# Altium integrated library Analog Devices Data Converters Digital-to-Analog Converters.IntLib: 2231 symbols (part 38 of 181)
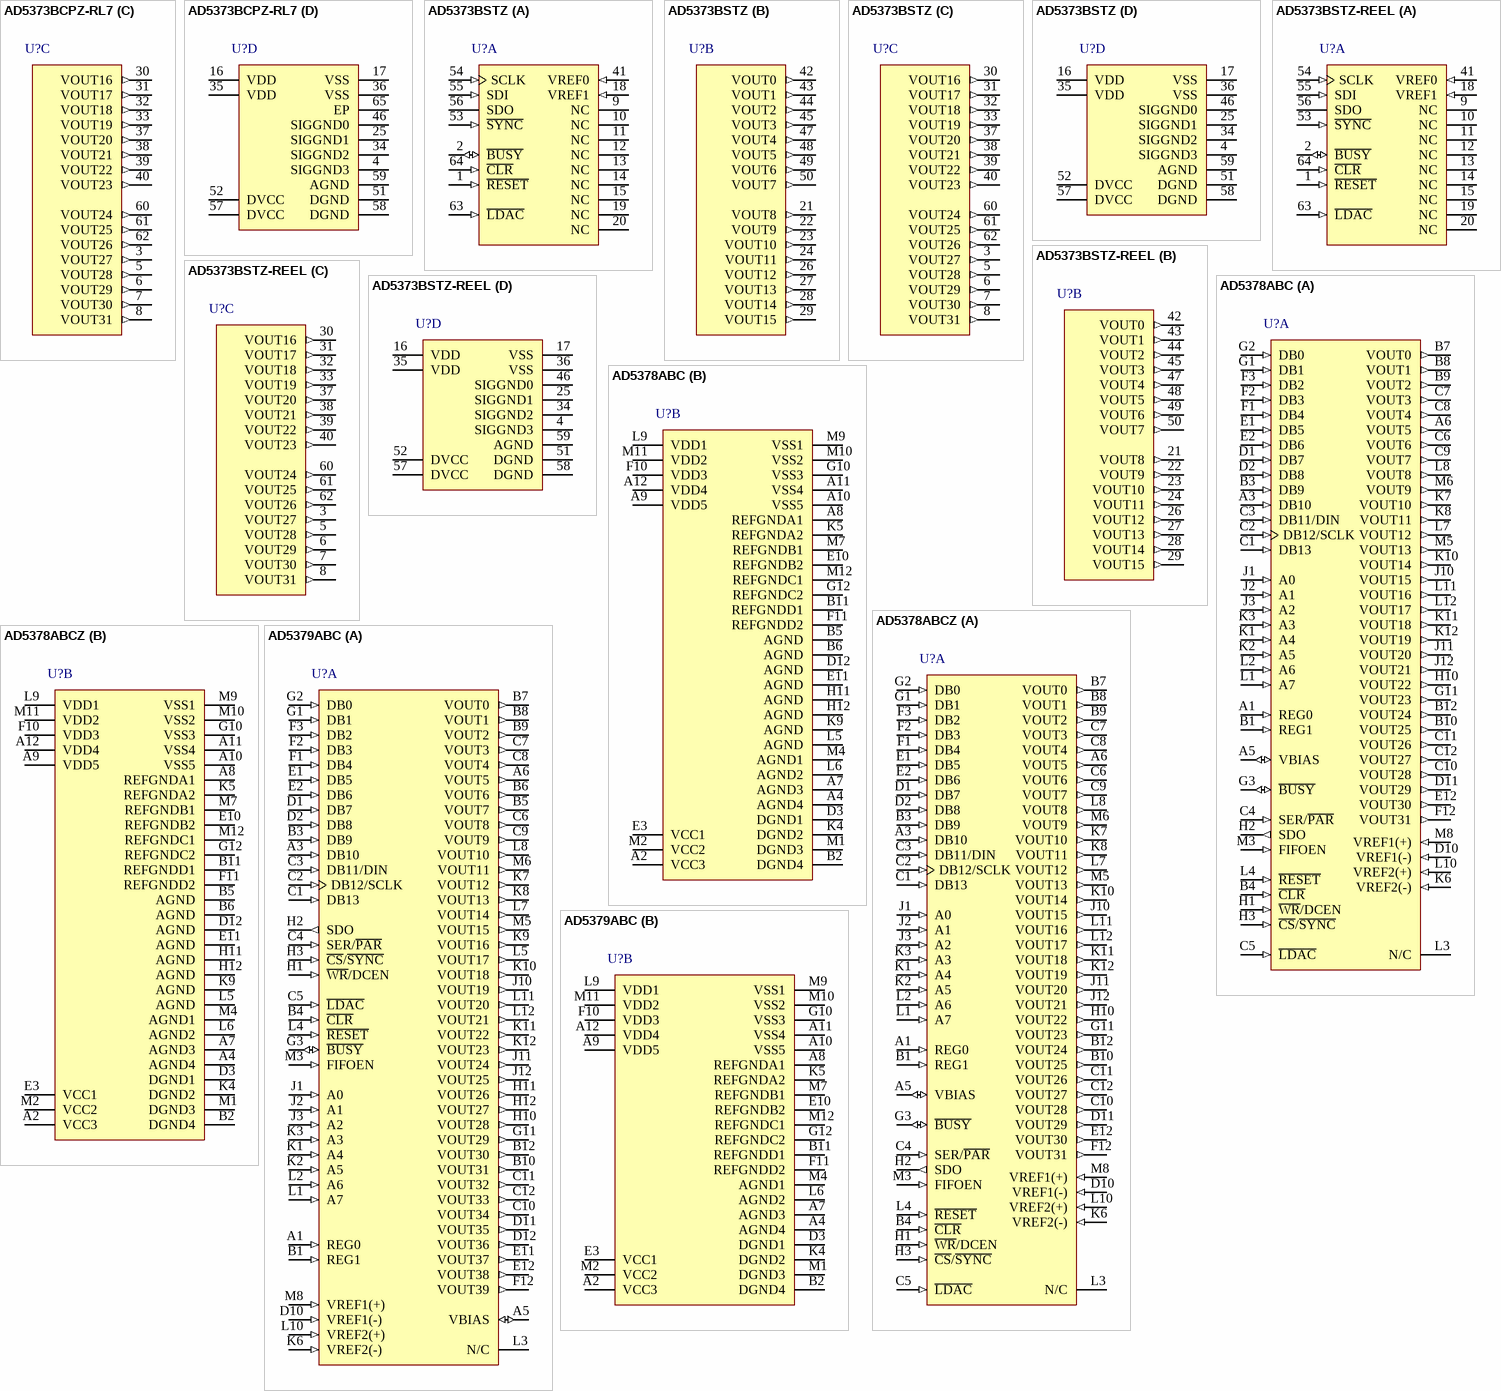
[diagram p151: symbols AD5373BCPZ-RL7 to AD5379ABC]

## AD5378ABC
designator U?
32 Channel 14-Bit Bipolar Voltage Output Digital-to-Analog Converter with Parallel and Serial Interface, -40 to +85 degC, BC-108-2, Tray; Generic Part Number: AD5378; Manufacturer: Analog Devices; PartNumber: AD5378ABC; # DAC Outputs: 32; Max V+: 16.5V; Op Pwr Diss: 850mW; Resolution (Bits): 14; Settling Time: 20µs; Single Supply: No; DatasheetVersion: Rev.A; PackageVersion: 012006-0; PackageReference: BC-108-2; PackageDescription: 108-Ball Chip Scale Package Ball Grid Array [CSP_BGA]; Supplier 1: Digi-Key; Supplier Part Number 1: AD5378ABC-ND; Supplier 2: Mouser; Supplier Part Number 2: 584-AD5378ABC; Packing: Tray; RoHS: N; Mounting Technology: Surface Mount; Code_JEDEC: MO-192-AAD-1; ComponentLink1Description: Manufacturer URL; ComponentLink1URL: http://www.analog.com/en/index.html; ComponentLink2Description: Datasheet; ComponentLink2URL: http://www.analog.com/static/imported-files/data_sheets/AD5378.pdf; ComponentLink3Description: Package Specification; ComponentLink3URL: http://www.analog.com/static/imported-files/packages/PKG_PDF/CSPBGA%20(BC)/BC_108_2.pdf; ComponentLink4Description: Product URL; ComponentLink4URL: http://www.analog.com/en/digital-to-analog-converters/da-converters/ad5378/products/product.html
footprint BC-108-2 (BGA, 108-Leads, Body 13x13mm, Pitch 1mm)
part A pins: A1 REG0 (in) "Parallel Interface Register Select Input. This pin is used together with REG1 to select data registers, gain registers, offset registers, increment/decrement mode, or the soft reset function. See Table 12.", A3 DB10 (in) "Parallel Data Input.", A5 VBIAS (io) "DAC Bias Voltage Input/Output. This pin provides an access to the on-chip voltage generator voltage. It is provided for bypassing and overdriving purposes only. If VREF(+) > 4.25 V, VBIAS must be pulled high externally to an (See Datasheet)", A6 VOUT5 (out) "DAC Output. Buffered analog outputs for each of the 32 DAC channels. Each analog output can drive an output load of 5 k ohm to ground. Typical output impedance of these amplifiers is 1 ohm.", B1 REG1 (in) "Parallel Interface Register Select Input. This pin is used together with REG0 to select data registers, gain registers, offset registers, increment/decrement mode, or the soft reset function. See Table 12.", B3 DB9 (in) "Parallel Data Input.", B4 ~{CLR} (in) "Asynchronous Clear Input. Level sensitive, active low. When C\L\R\ is low, the input to each of the DAC output buffer stages, VOUT0 to VOUT31, is switched to the externally set potential on the relevant REFGND pin. While (See Datasheet)", B7 VOUT0 (out) "DAC Output. Buffered analog outputs for each of the 32 DAC channels. Each analog output can drive an output load of 5 k ohm to ground. Typical output impedance of these amplifiers is 1 ohm.", B8 VOUT1 (out) "DAC Output. Buffered analog outputs for each of the 32 DAC channels. Each analog output can drive an output load of 5 k ohm to ground. Typical output impedance of these amplifiers is 1 ohm.", B9 VOUT2 (out) "DAC Output. Buffered analog outputs for each of the 32 DAC channels. Each analog output can drive an output load of 5 k ohm to ground. Typical output impedance of these amplifiers is 1 ohm.", B10 VOUT25 (out) "DAC Output. Buffered analog outputs for each of the 32 DAC channels. Each analog output can drive an output load of 5 k ohm to ground. Typical output impedance of these amplifiers is 1 ohm.", B12 VOUT24 (out) "DAC Output. Buffered analog outputs for each of the 32 DAC channels. Each analog output can drive an output load of 5 k ohm to ground. Typical output impedance of these amplifiers is 1 ohm.", C1 DB13 (in) "Parallel Data Input. DB13 is the MSB.", C2 DB12/SCLK (in) "Parallel Data Input. / Serial Clock Input. Data is clocked into the shift register on the falling edge of SCLK. This pin operates at clock speeds up to 50 MHz.", C3 DB11/DIN (in) "Parallel Data Input. / Serial Data Input. Data must be valid on the falling edge of SCLK.", C4 SER/~{PAR} (in) "Interface Select Input. This pin allows the user to select whether the serial or parallel interface is used. This pin has an internal 1 M ohm pull-down resistor, meaning that the default state at power-on is parallel mode. (See Datasheet)", C5 ~{LDAC} (in) "Load DAC Logic Input. Active low. If L\D\A\C\ is taken low while B\U\S\Y\ is inactive (high), the contents of the input registers are transferred to the DAC registers, and the DAC outputs are updated. If L\D\A\C\ is taken (See Datasheet)", C6 VOUT6 (out) "DAC Output. Buffered analog outputs for each of the 32 DAC channels. Each analog output can drive an output load of 5 k ohm to ground. Typical output impedance of these amplifiers is 1 ohm.", C7 VOUT3 (out) "DAC Output. Buffered analog outputs for each of the 32 DAC channels. Each analog output can drive an output load of 5 k ohm to ground. Typical output impedance of these amplifiers is 1 ohm.", C8 VOUT4 (out) "DAC Output. Buffered analog outputs for each of the 32 DAC channels. Each analog output can drive an output load of 5 k ohm to ground. Typical output impedance of these amplifiers is 1 ohm.", C9 VOUT7 (out) "DAC Output. Buffered analog outputs for each of the 32 DAC channels. Each analog output can drive an output load of 5 k ohm to ground. Typical output impedance of these amplifiers is 1 ohm.", C10 VOUT28 (out) "DAC Output. Buffered analog outputs for each of the 32 DAC channels. Each analog output can drive an output load of 5 k ohm to ground. Typical output impedance of these amplifiers is 1 ohm.", C11 VOUT26 (out) "DAC Output. Buffered analog outputs for each of the 32 DAC channels. Each analog output can drive an output load of 5 k ohm to ground. Typical output impedance of these amplifiers is 1 ohm.", C12 VOUT27 (out) "DAC Output. Buffered analog outputs for each of the 32 DAC channels. Each analog output can drive an output load of 5 k ohm to ground. Typical output impedance of these amplifiers is 1 ohm.", D1 DB7 (in) "Parallel Data Input.", D2 DB8 (in) "Parallel Data Input.", D10 VREF1(-) (in) "Reference Inputs for DACs 0 to 5, 8 to 13, 16 to 21, and 24 to 30. These voltages are referred to AGND.", D11 VOUT29 (out) "DAC Output. Buffered analog outputs for each of the 32 DAC channels. Each analog output can drive an output load of 5 k ohm to ground. Typical output impedance of these amplifiers is 1 ohm.", E1 DB5 (in) "Parallel Data Input.", E2 DB6 (in) "Parallel Data Input.", E12 VOUT30 (out) "DAC Output. Buffered analog outputs for each of the 32 DAC channels. Each analog output can drive an output load of 5 k ohm to ground. Typical output impedance of these amplifiers is 1 ohm.", F1 DB4 (in) "Parallel Data Input.", F2 DB3 (in) "Parallel Data Input.", F3 DB2 (in) "Parallel Data Input.", F12 VOUT31 (out) "DAC Output. Buffered analog outputs for each of the 32 DAC channels. Each analog output can drive an output load of 5 k ohm to ground. Typical output impedance of these amplifiers is 1 ohm.", G1 DB1 (in) "Parallel Data Input.", G2 DB0 (in) "Parallel Data Input. DB0 is the LSB.", G3 ~{BUSY} (io) "Digital Input/Open-Drain Output. This pin must be pulled high with a pull-up resistor for correct operation. B\U\S\Y\ goes low during internal calculations of x2. During this time, the user can continue writing new data to (See Datasheet)", G11 VOUT23 (out) "DAC Output. Buffered analog outputs for each of the 32 DAC channels. Each analog output can drive an output load of 5 k ohm to ground. Typical output impedance of these amplifiers is 1 ohm.", H1 ~{WR}/DCEN (in) "Parallel Interface Write Input. Edge sensitive. The rising edge of W\R\ is used in conjunction with C\S\ low and the address bus inputs to write to the selected AD5378 registers. / Daisy-Chain Select Input. Level sensitive, (See Datasheet)", H2 SDO (out) "Serial Data Output. CMOS output. SDO can be used for daisy-chaining several devices together. Data is clocked out on SDO on the rising edge of SCLK and is valid on the falling edge of SCLK.", H3 ~{CS}/~{SYNC} (in) "Parallel Interface Chip Select Input. Level sensitive, active low. When this pin is low, the device is selected. / Active Low Input. This is the frame synchronization signal for the serial interface.", H10 VOUT22 (out) "DAC Output. Buffered analog outputs for each of the 32 DAC channels. Each analog output can drive an output load of 5 k ohm to ground. Typical output impedance of these amplifiers is 1 ohm.", J1 A0 (in) "Parallel Address Input. A7 to A4 are decoded to select one group or multiple groups of registers (input registers, gain registers (m), or offset registers (c)) for a data transfer. This pin is used in conjunction with the (See Datasheet)", J2 A1 (in) "Parallel Address Input. A7 to A4 are decoded to select one group or multiple groups of registers (input registers, gain registers (m), or offset registers (c)) for a data transfer. This pin is used in conjunction with the (See Datasheet)", J3 A2 (in) "Parallel Address Input. A7 to A4 are decoded to select one group or multiple groups of registers (input registers, gain registers (m), or offset registers (c)) for a data transfer. This pin is used in conjunction with the (See Datasheet)", J10 VOUT15 (out) "DAC Output. Buffered analog outputs for each of the 32 DAC channels. Each analog output can drive an output load of 5 k ohm to ground. Typical output impedance of these amplifiers is 1 ohm.", J11 VOUT20 (out) "DAC Output. Buffered analog outputs for each of the 32 DAC channels. Each analog output can drive an output load of 5 k ohm to ground. Typical output impedance of these amplifiers is 1 ohm.", J12 VOUT21 (out) "DAC Output. Buffered analog outputs for each of the 32 DAC channels. Each analog output can drive an output load of 5 k ohm to ground. Typical output impedance of these amplifiers is 1 ohm.", K1 A4 (in) "Parallel Address Input. A7 to A4 are decoded to select one group or multiple groups of registers (input registers, gain registers (m), or offset registers (c)) for a data transfer. This pin is used in conjunction with the (See Datasheet)", K2 A5 (in) "Parallel Address Input. A7 to A4 are decoded to select one group or multiple groups of registers (input registers, gain registers (m), or offset registers (c)) for a data transfer. This pin is used in conjunction with the (See Datasheet)", K3 A3 (in) "Parallel Address Input. A7 to A4 are decoded to select one group or multiple groups of registers (input registers, gain registers (m), or offset registers (c)) for a data transfer. This pin is used in conjunction with the (See Datasheet)", K6 VREF2(-) (in) "Reference Inputs for DACs 6, 7, 14, 15, 22, 23, 30, and 31. These reference voltages are referred to AGND.", K7 VOUT10 (out) "DAC Output. Buffered analog outputs for each of the 32 DAC channels. Each analog output can drive an output load of 5 k ohm to ground. Typical output impedance of these amplifiers is 1 ohm.", K8 VOUT11 (out) "DAC Output. Buffered analog outputs for each of the 32 DAC channels. Each analog output can drive an output load of 5 k ohm to ground. Typical output impedance of these amplifiers is 1 ohm.", K10 VOUT14 (out) "DAC Output. Buffered analog outputs for each of the 32 DAC channels. Each analog output can drive an output load of 5 k ohm to ground. Typical output impedance of these amplifiers is 1 ohm.", K11 VOUT18 (out) "DAC Output. Buffered analog outputs for each of the 32 DAC channels. Each analog output can drive an output load of 5 k ohm to ground. Typical output impedance of these amplifiers is 1 ohm.", K12 VOUT19 (out) "DAC Output. Buffered analog outputs for each of the 32 DAC channels. Each analog output can drive an output load of 5 k ohm to ground. Typical output impedance of these amplifiers is 1 ohm.", L1 A7 (in) "Parallel Address Input. A7 to A4 are decoded to select one group or multiple groups of registers (input registers, gain registers (m), or offset registers (c)) for a data transfer. This pin is used in conjunction with the (See Datasheet)", L2 A6 (in) "Parallel Address Input. A7 to A4 are decoded to select one group or multiple groups of registers (input registers, gain registers (m), or offset registers (c)) for a data transfer. This pin is used in conjunction with the (See Datasheet)", L3 N/C "No Connect.", L4 ~{RESET} (in) "Asynchronous Digital Reset Input. Falling edge sensitive. If unused, R\E\S\E\T\ can be left unconnected; an internal pull-up resistor (1 M ohm) ensures that the R\E\S\E\T\ input is held high. The function of this pin is (See Datasheet)", L7 VOUT12 (out) "DAC Output. Buffered analog outputs for each of the 32 DAC channels. Each analog output can drive an output load of 5 k ohm to ground. Typical output impedance of these amplifiers is 1 ohm.", L8 VOUT8 (out) "DAC Output. Buffered analog outputs for each of the 32 DAC channels. Each analog output can drive an output load of 5 k ohm to ground. Typical output impedance of these amplifiers is 1 ohm.", L10 VREF2(+) (in) "Reference Inputs for DACs 6, 7, 14, 15, 22, 23, 30, and 31. These reference voltages are referred to AGND.", L11 VOUT16 (out) "DAC Output. Buffered analog outputs for each of the 32 DAC channels. Each analog output can drive an output load of 5 k ohm to ground. Typical output impedance of these amplifiers is 1 ohm.", L12 VOUT17 (out) "DAC Output. Buffered analog outputs for each of the 32 DAC channels. Each analog output can drive an output load of 5 k ohm to ground. Typical output impedance of these amplifiers is 1 ohm.", M3 FIFOEN (in) "FIFO Enable. Level sensitive, active high. When connected to DVDD, the internal FIFO is enabled, allowing the user to write to the device at full speed. FIFO is available in both serial and parallel modes. The FIFOEN pin has (See Datasheet)", M5 VOUT13 (out) "DAC Output. Buffered analog outputs for each of the 32 DAC channels. Each analog output can drive an output load of 5 k ohm to ground. Typical output impedance of these amplifiers is 1 ohm.", M6 VOUT9 (out) "DAC Output. Buffered analog outputs for each of the 32 DAC channels. Each analog output can drive an output load of 5 k ohm to ground. Typical output impedance of these amplifiers is 1 ohm.", M8 VREF1(+) (in) "Reference Inputs for DACs 0 to 5, 8 to 13, 16 to 21, and 24 to 30. These voltages are referred to AGND."
part B pins: A2 VCC3 (power) "Logic Power Supply. 2.7 V to 5.5 V. These pins should be decoupled with 0.1 uF ceramic capacitors and 10 uF tantalum capacitors.", A4 AGND4 (power) "Ground for All Analog Circuitry. All AGND pins should be connected to the AGND plane.", A7 AGND3 (power) "Ground for All Analog Circuitry. All AGND pins should be connected to the AGND plane.", A8 REFGNDA1 (power) "Reference Ground for DACs 0 to 5. VOUT0 to VOUT5 are referenced to this voltage.", A9 VDD5 (power) "Positive Analog Power Supply. +11.4 V to +16.5 V for specified performance. These pins should be decoupled with 0.1 uF ceramic capacitors and 10 uF tantalum capacitors.", A10 VSS5 (power) "Negative Analog Power Supply. -11.4 V to -16.5 V for specified performance. These pins should be decoupled with 0.1 uF ceramic capacitors and 10 uF tantalum capacitors.", A11 VSS4 (power) "Negative Analog Power Supply. -11.4 V to -16.5 V for specified performance. These pins should be decoupled with 0.1 uF ceramic capacitors and 10 uF tantalum capacitors.", A12 VDD4 (power) "Positive Analog Power Supply. +11.4 V to +16.5 V for specified performance. These pins should be decoupled with 0.1 uF ceramic capacitors and 10 uF tantalum capacitors.", B2 DGND4 (power) "Ground for All Digital Circuitry. All DGND pins should be connected to the DGND plane.", B5 AGND (power) "Ground for All Analog Circuitry. All AGND pins should be connected to the AGND plane.", B6 AGND (power) "Ground for All Analog Circuitry. All AGND pins should be connected to the AGND plane.", B11 REFGNDD1 (power) "Reference Ground for DACs 24 to 29. VOUT24 to VOUT29 are referenced to this voltage.", D3 DGND1 (power) "Ground for All Digital Circuitry. All DGND pins should be connected to the DGND plane.", D12 AGND (power) "Ground for All Analog Circuitry. All AGND pins should be connected to the AGND plane.", E3 VCC1 (power) "Logic Power Supply. 2.7 V to 5.5 V. These pins should be decoupled with 0.1 uF ceramic capacitors and 10 uF tantalum capacitors.", E10 REFGNDB2 (power) "Reference Ground for DACs 14 and 15. VOUT14 and VOUT15 are referenced to this voltage.", E11 AGND (power) "Ground for All Analog Circuitry. All AGND pins should be connected to the AGND plane.", F10 VDD3 (power) "Positive Analog Power Supply. +11.4 V to +16.5 V for specified performance. These pins should be decoupled with 0.1 uF ceramic capacitors and 10 uF tantalum capacitors.", F11 REFGNDD2 (power) "Reference Ground for DACs 30 and 31. VOUT30 and VOUT31 are referenced to this voltage.", G10 VSS3 (power) "Negative Analog Power Supply. -11.4 V to -16.5 V for specified performance. These pins should be decoupled with 0.1 uF ceramic capacitors and 10 uF tantalum capacitors.", G12 REFGNDC2 (power) "Reference Ground for DACs 22 and 23. VOUT22 and VOUT23 are referenced to this voltage.", H11 AGND (power) "Ground for All Analog Circuitry. All AGND pins should be connected to the AGND plane.", H12 AGND (power) "Ground for All Analog Circuitry. All AGND pins should be connected to the AGND plane.", K4 DGND2 (power) "Ground for All Digital Circuitry. All DGND pins should be connected to the DGND plane.", K5 REFGNDA2 (power) "Reference Ground for DACs 6 and 7. VOUT6 and VOUT7 are referenced to this voltage.", K9 AGND (power) "Ground for All Analog Circuitry. All AGND pins should be connected to the AGND plane.", L5 AGND (power) "Ground for All Analog Circuitry. All AGND pins should be connected to the AGND plane.", L6 AGND2 (power) "Ground for All Analog Circuitry. All AGND pins should be connected to the AGND plane.", L9 VDD1 (power) "Positive Analog Power Supply. +11.4 V to +16.5 V for specified performance. These pins should be decoupled with 0.1 uF ceramic capacitors and 10 uF tantalum capacitors.", M1 DGND3 (power) "Ground for All Digital Circuitry. All DGND pins should be connected to the DGND plane.", M2 VCC2 (power) "Logic Power Supply. 2.7 V to 5.5 V. These pins should be decoupled with 0.1 uF ceramic capacitors and 10 uF tantalum capacitors.", M4 AGND1 (power) "Ground for All Analog Circuitry. All AGND pins should be connected to the AGND plane.", M7 REFGNDB1 (power) "Reference Ground for DACs 8 to 13. VOUT8 to VOUT13 are referenced to this voltage.", M9 VSS1 (power) "Negative Analog Power Supply. -11.4 V to -16.5 V for specified performance. These pins should be decoupled with 0.1 uF ceramic capacitors and 10 uF tantalum capacitors.", M10 VSS2 (power) "Negative Analog Power Supply. -11.4 V to -16.5 V for specified performance. These pins should be decoupled with 0.1 uF ceramic capacitors and 10 uF tantalum capacitors.", M11 VDD2 (power) "Positive Analog Power Supply. +11.4 V to +16.5 V for specified performance. These pins should be decoupled with 0.1 uF ceramic capacitors and 10 uF tantalum capacitors.", M12 REFGNDC1 (power) "Reference Ground for DACs 16 to 21. VOUT16 to VOUT21 are referenced to this voltage."

## AD5378ABCZ
designator U?
32 Channel 14-Bit Bipolar Voltage Output Digital-to-Analog Converter with Parallel and Serial Interface, -40 to +85 degC, BC-108-2, Pb-Free, Tray; Generic Part Number: AD5378; Manufacturer: Analog Devices; PartNumber: AD5378ABCZ; # DAC Outputs: 32; Max V+: 16.5V; Op Pwr Diss: 850mW; Resolution (Bits): 14; Settling Time: 20µs; Single Supply: No; DatasheetVersion: Rev.A; PackageVersion: 012006-0; PackageReference: BC-108-2; PackageDescription: 108-Ball Chip Scale Package Ball Grid Array [CSP_BGA]; Supplier 1: Digi-Key; Supplier Part Number 1: AD5378ABCZ-ND; Supplier 2: Mouser; Supplier Part Number 2: 584-AD5378ABCZ; Packing: Tray; RoHS: Y; Mounting Technology: Surface Mount; Code_JEDEC: MO-192-AAD-1; ComponentLink1Description: Manufacturer URL; ComponentLink1URL: http://www.analog.com/en/index.html; ComponentLink2Description: Datasheet; ComponentLink2URL: http://www.analog.com/static/imported-files/data_sheets/AD5378.pdf; ComponentLink3Description: Package Specification; ComponentLink3URL: http://www.analog.com/static/imported-files/packages/PKG_PDF/CSPBGA%20(BC)/BC_108_2.pdf; ComponentLink4Description: Product URL; ComponentLink4URL: http://www.analog.com/en/digital-to-analog-converters/da-converters/ad5378/products/product.html
footprint BC-108-2 (BGA, 108-Leads, Body 13x13mm, Pitch 1mm)
part A pins: A1 REG0 (in) "Parallel Interface Register Select Input. This pin is used together with REG1 to select data registers, gain registers, offset registers, increment/decrement mode, or the soft reset function. See Table 12.", A3 DB10 (in) "Parallel Data Input.", A5 VBIAS (io) "DAC Bias Voltage Input/Output. This pin provides an access to the on-chip voltage generator voltage. It is provided for bypassing and overdriving purposes only. If VREF(+) > 4.25 V, VBIAS must be pulled high externally to an (See Datasheet)", A6 VOUT5 (out) "DAC Output. Buffered analog outputs for each of the 32 DAC channels. Each analog output can drive an output load of 5 k ohm to ground. Typical output impedance of these amplifiers is 1 ohm.", B1 REG1 (in) "Parallel Interface Register Select Input. This pin is used together with REG0 to select data registers, gain registers, offset registers, increment/decrement mode, or the soft reset function. See Table 12.", B3 DB9 (in) "Parallel Data Input.", B4 ~{CLR} (in) "Asynchronous Clear Input. Level sensitive, active low. When C\L\R\ is low, the input to each of the DAC output buffer stages, VOUT0 to VOUT31, is switched to the externally set potential on the relevant REFGND pin. While (See Datasheet)", B7 VOUT0 (out) "DAC Output. Buffered analog outputs for each of the 32 DAC channels. Each analog output can drive an output load of 5 k ohm to ground. Typical output impedance of these amplifiers is 1 ohm.", B8 VOUT1 (out) "DAC Output. Buffered analog outputs for each of the 32 DAC channels. Each analog output can drive an output load of 5 k ohm to ground. Typical output impedance of these amplifiers is 1 ohm.", B9 VOUT2 (out) "DAC Output. Buffered analog outputs for each of the 32 DAC channels. Each analog output can drive an output load of 5 k ohm to ground. Typical output impedance of these amplifiers is 1 ohm.", B10 VOUT25 (out) "DAC Output. Buffered analog outputs for each of the 32 DAC channels. Each analog output can drive an output load of 5 k ohm to ground. Typical output impedance of these amplifiers is 1 ohm.", B12 VOUT24 (out) "DAC Output. Buffered analog outputs for each of the 32 DAC channels. Each analog output can drive an output load of 5 k ohm to ground. Typical output impedance of these amplifiers is 1 ohm.", C1 DB13 (in) "Parallel Data Input. DB13 is the MSB.", C2 DB12/SCLK (in) "Parallel Data Input. / Serial Clock Input. Data is clocked into the shift register on the falling edge of SCLK. This pin operates at clock speeds up to 50 MHz.", C3 DB11/DIN (in) "Parallel Data Input. / Serial Data Input. Data must be valid on the falling edge of SCLK.", C4 SER/~{PAR} (in) "Interface Select Input. This pin allows the user to select whether the serial or parallel interface is used. This pin has an internal 1 M ohm pull-down resistor, meaning that the default state at power-on is parallel mode. (See Datasheet)", C5 ~{LDAC} (in) "Load DAC Logic Input. Active low. If L\D\A\C\ is taken low while B\U\S\Y\ is inactive (high), the contents of the input registers are transferred to the DAC registers, and the DAC outputs are updated. If L\D\A\C\ is taken (See Datasheet)", C6 VOUT6 (out) "DAC Output. Buffered analog outputs for each of the 32 DAC channels. Each analog output can drive an output load of 5 k ohm to ground. Typical output impedance of these amplifiers is 1 ohm.", C7 VOUT3 (out) "DAC Output. Buffered analog outputs for each of the 32 DAC channels. Each analog output can drive an output load of 5 k ohm to ground. Typical output impedance of these amplifiers is 1 ohm.", C8 VOUT4 (out) "DAC Output. Buffered analog outputs for each of the 32 DAC channels. Each analog output can drive an output load of 5 k ohm to ground. Typical output impedance of these amplifiers is 1 ohm.", C9 VOUT7 (out) "DAC Output. Buffered analog outputs for each of the 32 DAC channels. Each analog output can drive an output load of 5 k ohm to ground. Typical output impedance of these amplifiers is 1 ohm.", C10 VOUT28 (out) "DAC Output. Buffered analog outputs for each of the 32 DAC channels. Each analog output can drive an output load of 5 k ohm to ground. Typical output impedance of these amplifiers is 1 ohm.", C11 VOUT26 (out) "DAC Output. Buffered analog outputs for each of the 32 DAC channels. Each analog output can drive an output load of 5 k ohm to ground. Typical output impedance of these amplifiers is 1 ohm.", C12 VOUT27 (out) "DAC Output. Buffered analog outputs for each of the 32 DAC channels. Each analog output can drive an output load of 5 k ohm to ground. Typical output impedance of these amplifiers is 1 ohm.", D1 DB7 (in) "Parallel Data Input.", D2 DB8 (in) "Parallel Data Input.", D10 VREF1(-) (in) "Reference Inputs for DACs 0 to 5, 8 to 13, 16 to 21, and 24 to 30. These voltages are referred to AGND.", D11 VOUT29 (out) "DAC Output. Buffered analog outputs for each of the 32 DAC channels. Each analog output can drive an output load of 5 k ohm to ground. Typical output impedance of these amplifiers is 1 ohm.", E1 DB5 (in) "Parallel Data Input.", E2 DB6 (in) "Parallel Data Input.", E12 VOUT30 (out) "DAC Output. Buffered analog outputs for each of the 32 DAC channels. Each analog output can drive an output load of 5 k ohm to ground. Typical output impedance of these amplifiers is 1 ohm.", F1 DB4 (in) "Parallel Data Input.", F2 DB3 (in) "Parallel Data Input.", F3 DB2 (in) "Parallel Data Input.", F12 VOUT31 (out) "DAC Output. Buffered analog outputs for each of the 32 DAC channels. Each analog output can drive an output load of 5 k ohm to ground. Typical output impedance of these amplifiers is 1 ohm.", G1 DB1 (in) "Parallel Data Input.", G2 DB0 (in) "Parallel Data Input. DB0 is the LSB.", G3 ~{BUSY} (io) "Digital Input/Open-Drain Output. This pin must be pulled high with a pull-up resistor for correct operation. B\U\S\Y\ goes low during internal calculations of x2. During this time, the user can continue writing new data to (See Datasheet)", G11 VOUT23 (out) "DAC Output. Buffered analog outputs for each of the 32 DAC channels. Each analog output can drive an output load of 5 k ohm to ground. Typical output impedance of these amplifiers is 1 ohm.", H1 ~{WR}/DCEN (in) "Parallel Interface Write Input. Edge sensitive. The rising edge of W\R\ is used in conjunction with C\S\ low and the address bus inputs to write to the selected AD5378 registers. / Daisy-Chain Select Input. Level sensitive, (See Datasheet)", H2 SDO (out) "Serial Data Output. CMOS output. SDO can be used for daisy-chaining several devices together. Data is clocked out on SDO on the rising edge of SCLK and is valid on the falling edge of SCLK.", H3 ~{CS}/~{SYNC} (in) "Parallel Interface Chip Select Input. Level sensitive, active low. When this pin is low, the device is selected. / Active Low Input. This is the frame synchronization signal for the serial interface.", H10 VOUT22 (out) "DAC Output. Buffered analog outputs for each of the 32 DAC channels. Each analog output can drive an output load of 5 k ohm to ground. Typical output impedance of these amplifiers is 1 ohm.", J1 A0 (in) "Parallel Address Input. A7 to A4 are decoded to select one group or multiple groups of registers (input registers, gain registers (m), or offset registers (c)) for a data transfer. This pin is used in conjunction with the (See Datasheet)", J2 A1 (in) "Parallel Address Input. A7 to A4 are decoded to select one group or multiple groups of registers (input registers, gain registers (m), or offset registers (c)) for a data transfer. This pin is used in conjunction with the (See Datasheet)", J3 A2 (in) "Parallel Address Input. A7 to A4 are decoded to select one group or multiple groups of registers (input registers, gain registers (m), or offset registers (c)) for a data transfer. This pin is used in conjunction with the (See Datasheet)", J10 VOUT15 (out) "DAC Output. Buffered analog outputs for each of the 32 DAC channels. Each analog output can drive an output load of 5 k ohm to ground. Typical output impedance of these amplifiers is 1 ohm.", J11 VOUT20 (out) "DAC Output. Buffered analog outputs for each of the 32 DAC channels. Each analog output can drive an output load of 5 k ohm to ground. Typical output impedance of these amplifiers is 1 ohm.", J12 VOUT21 (out) "DAC Output. Buffered analog outputs for each of the 32 DAC channels. Each analog output can drive an output load of 5 k ohm to ground. Typical output impedance of these amplifiers is 1 ohm.", K1 A4 (in) "Parallel Address Input. A7 to A4 are decoded to select one group or multiple groups of registers (input registers, gain registers (m), or offset registers (c)) for a data transfer. This pin is used in conjunction with the (See Datasheet)", K2 A5 (in) "Parallel Address Input. A7 to A4 are decoded to select one group or multiple groups of registers (input registers, gain registers (m), or offset registers (c)) for a data transfer. This pin is used in conjunction with the (See Datasheet)", K3 A3 (in) "Parallel Address Input. A7 to A4 are decoded to select one group or multiple groups of registers (input registers, gain registers (m), or offset registers (c)) for a data transfer. This pin is used in conjunction with the (See Datasheet)", K6 VREF2(-) (in) "Reference Inputs for DACs 6, 7, 14, 15, 22, 23, 30, and 31. These reference voltages are referred to AGND.", K7 VOUT10 (out) "DAC Output. Buffered analog outputs for each of the 32 DAC channels. Each analog output can drive an output load of 5 k ohm to ground. Typical output impedance of these amplifiers is 1 ohm.", K8 VOUT11 (out) "DAC Output. Buffered analog outputs for each of the 32 DAC channels. Each analog output can drive an output load of 5 k ohm to ground. Typical output impedance of these amplifiers is 1 ohm.", K10 VOUT14 (out) "DAC Output. Buffered analog outputs for each of the 32 DAC channels. Each analog output can drive an output load of 5 k ohm to ground. Typical output impedance of these amplifiers is 1 ohm.", K11 VOUT18 (out) "DAC Output. Buffered analog outputs for each of the 32 DAC channels. Each analog output can drive an output load of 5 k ohm to ground. Typical output impedance of these amplifiers is 1 ohm.", K12 VOUT19 (out) "DAC Output. Buffered analog outputs for each of the 32 DAC channels. Each analog output can drive an output load of 5 k ohm to ground. Typical output impedance of these amplifiers is 1 ohm.", L1 A7 (in) "Parallel Address Input. A7 to A4 are decoded to select one group or multiple groups of registers (input registers, gain registers (m), or offset registers (c)) for a data transfer. This pin is used in conjunction with the (See Datasheet)", L2 A6 (in) "Parallel Address Input. A7 to A4 are decoded to select one group or multiple groups of registers (input registers, gain registers (m), or offset registers (c)) for a data transfer. This pin is used in conjunction with the (See Datasheet)", L3 N/C "No Connect.", L4 ~{RESET} (in) "Asynchronous Digital Reset Input. Falling edge sensitive. If unused, R\E\S\E\T\ can be left unconnected; an internal pull-up resistor (1 M ohm) ensures that the R\E\S\E\T\ input is held high. The function of this pin is (See Datasheet)", L7 VOUT12 (out) "DAC Output. Buffered analog outputs for each of the 32 DAC channels. Each analog output can drive an output load of 5 k ohm to ground. Typical output impedance of these amplifiers is 1 ohm.", L8 VOUT8 (out) "DAC Output. Buffered analog outputs for each of the 32 DAC channels. Each analog output can drive an output load of 5 k ohm to ground. Typical output impedance of these amplifiers is 1 ohm.", L10 VREF2(+) (in) "Reference Inputs for DACs 6, 7, 14, 15, 22, 23, 30, and 31. These reference voltages are referred to AGND.", L11 VOUT16 (out) "DAC Output. Buffered analog outputs for each of the 32 DAC channels. Each analog output can drive an output load of 5 k ohm to ground. Typical output impedance of these amplifiers is 1 ohm.", L12 VOUT17 (out) "DAC Output. Buffered analog outputs for each of the 32 DAC channels. Each analog output can drive an output load of 5 k ohm to ground. Typical output impedance of these amplifiers is 1 ohm.", M3 FIFOEN (in) "FIFO Enable. Level sensitive, active high. When connected to DVDD, the internal FIFO is enabled, allowing the user to write to the device at full speed. FIFO is available in both serial and parallel modes. The FIFOEN pin has (See Datasheet)", M5 VOUT13 (out) "DAC Output. Buffered analog outputs for each of the 32 DAC channels. Each analog output can drive an output load of 5 k ohm to ground. Typical output impedance of these amplifiers is 1 ohm.", M6 VOUT9 (out) "DAC Output. Buffered analog outputs for each of the 32 DAC channels. Each analog output can drive an output load of 5 k ohm to ground. Typical output impedance of these amplifiers is 1 ohm.", M8 VREF1(+) (in) "Reference Inputs for DACs 0 to 5, 8 to 13, 16 to 21, and 24 to 30. These voltages are referred to AGND."
part B pins: A2 VCC3 (power) "Logic Power Supply. 2.7 V to 5.5 V. These pins should be decoupled with 0.1 uF ceramic capacitors and 10 uF tantalum capacitors.", A4 AGND4 (power) "Ground for All Analog Circuitry. All AGND pins should be connected to the AGND plane.", A7 AGND3 (power) "Ground for All Analog Circuitry. All AGND pins should be connected to the AGND plane.", A8 REFGNDA1 (power) "Reference Ground for DACs 0 to 5. VOUT0 to VOUT5 are referenced to this voltage.", A9 VDD5 (power) "Positive Analog Power Supply. +11.4 V to +16.5 V for specified performance. These pins should be decoupled with 0.1 uF ceramic capacitors and 10 uF tantalum capacitors.", A10 VSS5 (power) "Negative Analog Power Supply. -11.4 V to -16.5 V for specified performance. These pins should be decoupled with 0.1 uF ceramic capacitors and 10 uF tantalum capacitors.", A11 VSS4 (power) "Negative Analog Power Supply. -11.4 V to -16.5 V for specified performance. These pins should be decoupled with 0.1 uF ceramic capacitors and 10 uF tantalum capacitors.", A12 VDD4 (power) "Positive Analog Power Supply. +11.4 V to +16.5 V for specified performance. These pins should be decoupled with 0.1 uF ceramic capacitors and 10 uF tantalum capacitors.", B2 DGND4 (power) "Ground for All Digital Circuitry. All DGND pins should be connected to the DGND plane.", B5 AGND (power) "Ground for All Analog Circuitry. All AGND pins should be connected to the AGND plane.", B6 AGND (power) "Ground for All Analog Circuitry. All AGND pins should be connected to the AGND plane.", B11 REFGNDD1 (power) "Reference Ground for DACs 24 to 29. VOUT24 to VOUT29 are referenced to this voltage.", D3 DGND1 (power) "Ground for All Digital Circuitry. All DGND pins should be connected to the DGND plane.", D12 AGND (power) "Ground for All Analog Circuitry. All AGND pins should be connected to the AGND plane.", E3 VCC1 (power) "Logic Power Supply. 2.7 V to 5.5 V. These pins should be decoupled with 0.1 uF ceramic capacitors and 10 uF tantalum capacitors.", E10 REFGNDB2 (power) "Reference Ground for DACs 14 and 15. VOUT14 and VOUT15 are referenced to this voltage.", E11 AGND (power) "Ground for All Analog Circuitry. All AGND pins should be connected to the AGND plane.", F10 VDD3 (power) "Positive Analog Power Supply. +11.4 V to +16.5 V for specified performance. These pins should be decoupled with 0.1 uF ceramic capacitors and 10 uF tantalum capacitors.", F11 REFGNDD2 (power) "Reference Ground for DACs 30 and 31. VOUT30 and VOUT31 are referenced to this voltage.", G10 VSS3 (power) "Negative Analog Power Supply. -11.4 V to -16.5 V for specified performance. These pins should be decoupled with 0.1 uF ceramic capacitors and 10 uF tantalum capacitors.", G12 REFGNDC2 (power) "Reference Ground for DACs 22 and 23. VOUT22 and VOUT23 are referenced to this voltage.", H11 AGND (power) "Ground for All Analog Circuitry. All AGND pins should be connected to the AGND plane.", H12 AGND (power) "Ground for All Analog Circuitry. All AGND pins should be connected to the AGND plane.", K4 DGND2 (power) "Ground for All Digital Circuitry. All DGND pins should be connected to the DGND plane.", K5 REFGNDA2 (power) "Reference Ground for DACs 6 and 7. VOUT6 and VOUT7 are referenced to this voltage.", K9 AGND (power) "Ground for All Analog Circuitry. All AGND pins should be connected to the AGND plane.", L5 AGND (power) "Ground for All Analog Circuitry. All AGND pins should be connected to the AGND plane.", L6 AGND2 (power) "Ground for All Analog Circuitry. All AGND pins should be connected to the AGND plane.", L9 VDD1 (power) "Positive Analog Power Supply. +11.4 V to +16.5 V for specified performance. These pins should be decoupled with 0.1 uF ceramic capacitors and 10 uF tantalum capacitors.", M1 DGND3 (power) "Ground for All Digital Circuitry. All DGND pins should be connected to the DGND plane.", M2 VCC2 (power) "Logic Power Supply. 2.7 V to 5.5 V. These pins should be decoupled with 0.1 uF ceramic capacitors and 10 uF tantalum capacitors.", M4 AGND1 (power) "Ground for All Analog Circuitry. All AGND pins should be connected to the AGND plane.", M7 REFGNDB1 (power) "Reference Ground for DACs 8 to 13. VOUT8 to VOUT13 are referenced to this voltage.", M9 VSS1 (power) "Negative Analog Power Supply. -11.4 V to -16.5 V for specified performance. These pins should be decoupled with 0.1 uF ceramic capacitors and 10 uF tantalum capacitors.", M10 VSS2 (power) "Negative Analog Power Supply. -11.4 V to -16.5 V for specified performance. These pins should be decoupled with 0.1 uF ceramic capacitors and 10 uF tantalum capacitors.", M11 VDD2 (power) "Positive Analog Power Supply. +11.4 V to +16.5 V for specified performance. These pins should be decoupled with 0.1 uF ceramic capacitors and 10 uF tantalum capacitors.", M12 REFGNDC1 (power) "Reference Ground for DACs 16 to 21. VOUT16 to VOUT21 are referenced to this voltage."